# EAGLE library part 621006245821 (library Headers)
2.00mm SMT Straight Dual Low Profile Pin Header WR-PHD Manufacturer's datasheet <https://katalog.we-online.com/em/datasheet/621006245821.pdf>
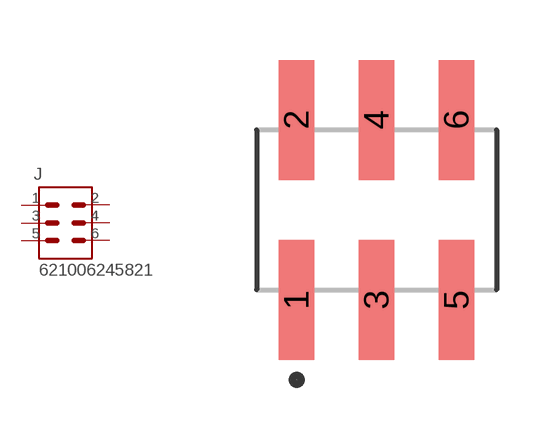
[diagram p6: symbol with the pads of 621006245821; footprint 621006245821]

Designator prefix J

## 621006245821 (CREATED_BY: PCBLayout.com; MANUFACTURER: Wurth Elektronik; MPN: 621006245821)  [621006245821]
1  1  pas
2  2  pas
3  3  pas
4  4  pas
5  5  pas
6  6  pas

## Footprint 621006245821 (pad centres in mm)
smd 0.89 x 3: 1 -2,-2.25; 2 -2,2.25; 3 0,-2.25; 4 0,2.25; 5 2,-2.25; 6 2,2.25